# Altium schematic symbol library sch_ics_mcu_nRF52840_aQFN73_7x7mm.SchLib: 1 symbol
Pins are listed as number, name and electrical type; pins without a type are passive.

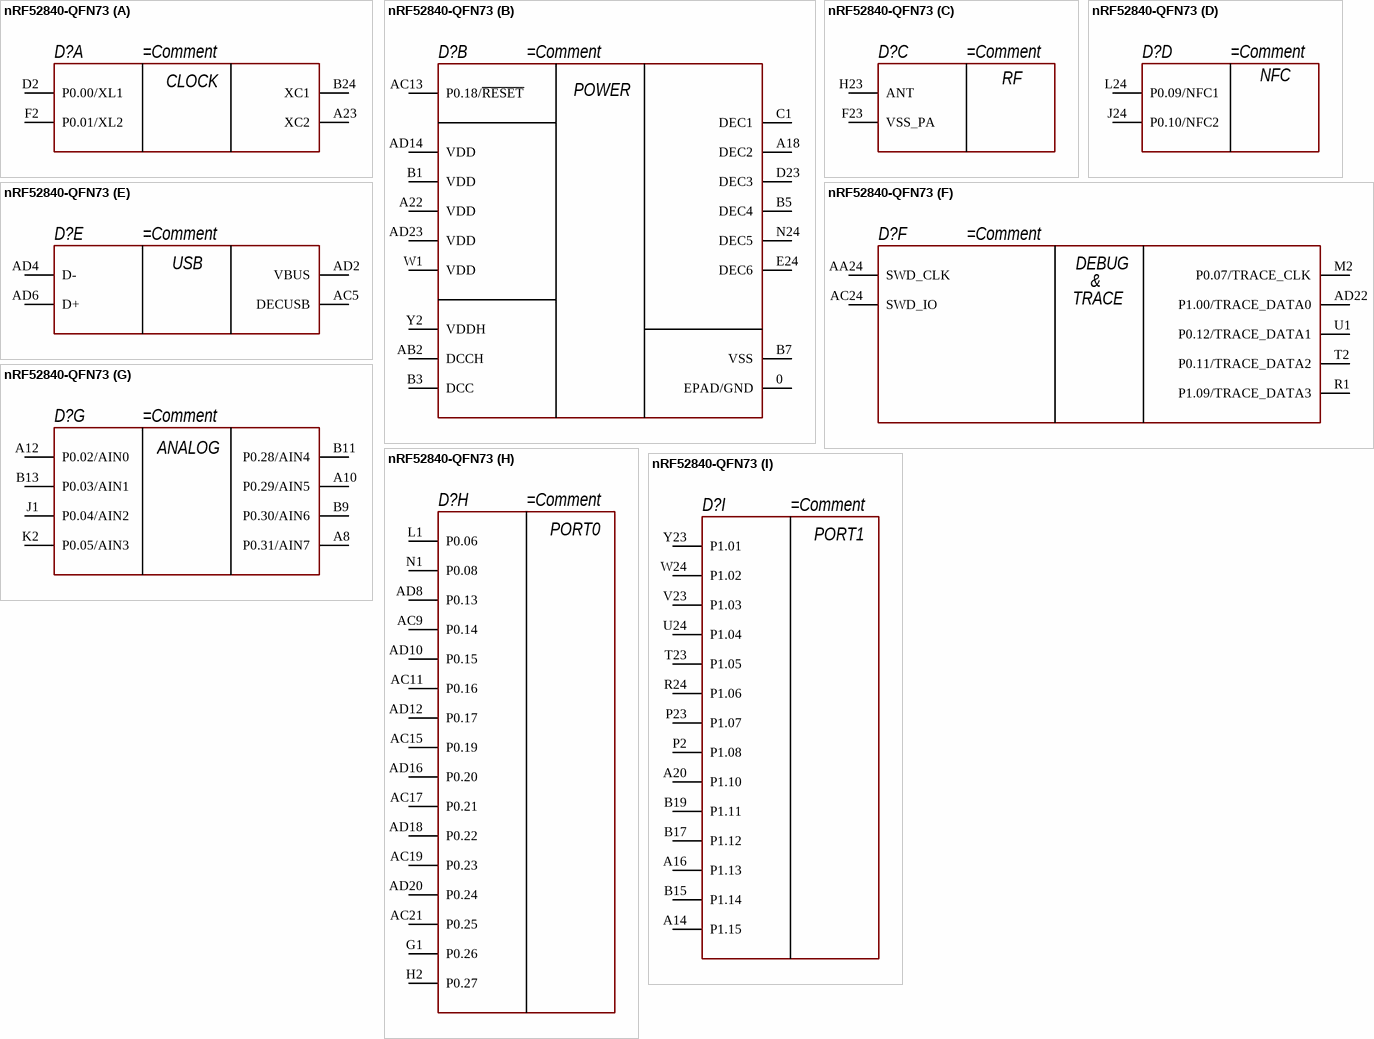
[diagram p0: symbol nRF52840-QFN73]

## nRF52840-QFN73
designator D?
part A pins: A23 XC2 (power), B24 XC1 (power), D2 P0.00/XL1 (power), F2 P0.01/XL2 (power)
part B pins: 0 EPAD/GND (power), A18 DEC2 (power), A22 VDD (power), AB2 DCCH (power), AC13 P0.18/~{RESET} (power), AD14 VDD (power), AD23 VDD (power), B1 VDD (power), B3 DCC (power), B5 DEC4 (power), B7 VSS (power), C1 DEC1 (power), D23 DEC3 (power), E24 DEC6 (power), N24 DEC5 (power), W1 VDD (power), Y2 VDDH (power)
part C pins: F23 VSS_PA (power), H23 ANT (power)
part D pins: J24 P0.10/NFC2 (power), L24 P0.09/NFC1 (power)
part E pins: AC5 DECUSB (power), AD2 VBUS (power), AD4 D- (power), AD6 D+ (power)
part F pins: AA24 SWD_CLK (power), AC24 SWD_IO (power), AD22 P1.00/TRACE_DATA0 (power), M2 P0.07/TRACE_CLK (power), R1 P1.09/TRACE_DATA3 (power), T2 P0.11/TRACE_DATA2 (power), U1 P0.12/TRACE_DATA1 (power)
part G pins: A8 P0.31/AIN7 (power), A10 P0.29/AIN5 (power), A12 P0.02/AIN0 (power), B9 P0.30/AIN6 (power), B11 P0.28/AIN4 (power), B13 P0.03/AIN1 (power), J1 P0.04/AIN2 (power), K2 P0.05/AIN3 (power)
part H pins: AC9 P0.14 (power), AC11 P0.16 (power), AC15 P0.19 (power), AC17 P0.21 (power), AC19 P0.23 (power), AC21 P0.25 (power), AD8 P0.13 (power), AD10 P0.15 (power), AD12 P0.17 (power), AD16 P0.20 (power), AD18 P0.22 (power), AD20 P0.24 (power), G1 P0.26 (power), H2 P0.27 (power), L1 P0.06 (power), N1 P0.08 (power)
part I pins: A14 P1.15 (power), A16 P1.13 (power), A20 P1.10 (power), B15 P1.14 (power), B17 P1.12 (power), B19 P1.11 (power), P2 P1.08 (power), P23 P1.07 (power), R24 P1.06 (power), T23 P1.05 (power), U24 P1.04 (power), V23 P1.03 (power), W24 P1.02 (power), Y23 P1.01 (power)
part A text: CLOCK
part B text: POWER
part C text: RF
part D text: NFC
part E text: USB
part F text: DEBUG; &; TRACE
part G text: ANALOG
part H text: PORT0
part I text: PORT1